# Altium schematic symbol library checkPoint.SchLib: 1 symbol
Pins are listed as number, name and electrical type; pins without a type are passive.

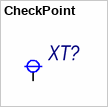
[diagram p0: symbol CheckPoint]

## CheckPoint
designator XT?  (value not drawn)  (no BOM)
footprint CheckPoint_2mm
pins: 1